# Altium schematic symbol library Driver.SchLib: 18 symbols
Pins are listed as number, name and electrical type; pins without a type are passive.

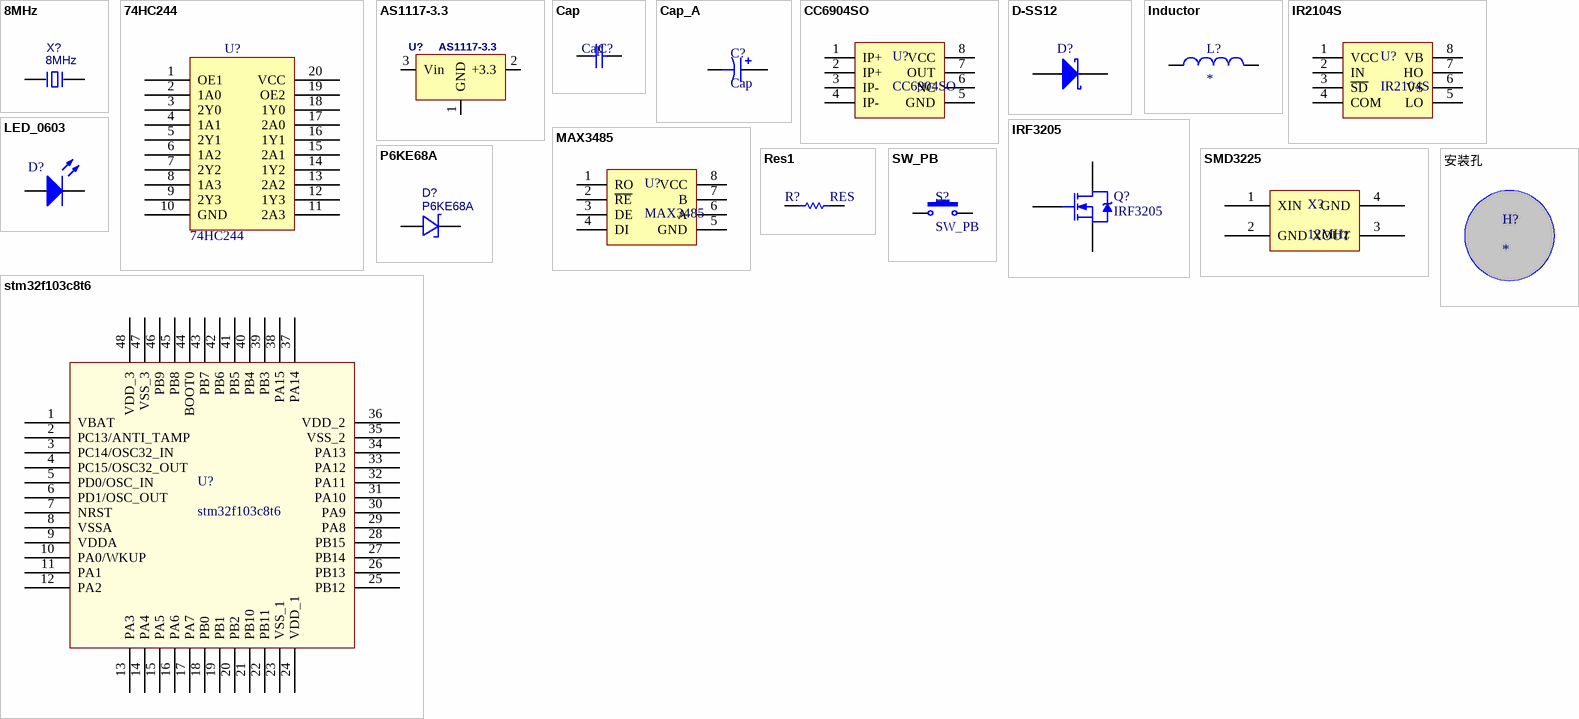
[diagram p0: symbols 8MHz to 安装孔]

## 8MHz
designator X?
Crystal; BOM_Manufacturer: ZheJiang East Crystal Elec; BOM_Manufacturer Part: B08000J065; nameAlias: Frequency; Contributor: LCSC; BOM_Supplier: LCSC; BOM_Supplier Part: C258976; spicePre: X; spiceSymbolName: B08000J065
pins: 1, 2

## 74HC244
designator U?  (value not drawn)
footprint TSSOP20
pins: 1 OE1, 2 1A0, 3 2Y0, 4 1A1, 5 2Y1, 6 1A2, 7 2Y2, 8 1A3, 9 2Y3, 10 GND, 11 2A3, 12 1Y3, 13 2A2, 14 1Y2, 15 2A1, 16 1Y1, 17 2A0, 18 1Y0, 19 OE2, 20 VCC

## AS1117-3.3
designator U?
footprint SOT223
pins: 1 GND, 2 +3.3, 3 Vin

## Cap
designator C?
Capacitor; Published: 8-Jun-2000; LatestRevisionDate: 17-Jul-2002; LatestRevisionNote: Re-released for DXP Platform.; PackageReference: RAD-0.3; Publisher: Altium Limited; PackageDescription: Radial Cap, Thru-Hole; 2 Leads; 0.3 in Pin Spacing
simulation model CAP (Capacitor)
signal-integrity model Cap
footprint LC-0603_C
pins: 1, 2

## Cap_A
designator C?, comment Cap
Capacitor
pins: 1, 2

## CC6904SO
designator U?
pins: 1 IP+, 2 IP+, 3 IP-, 4 IP-, 5 GND, 6 NC, 7 OUT, 8 VCC

## D-SS12
designator D?  (value not drawn)
footprint SMA
footprint SOD-323 (Surface mounted, 2 pin package)
pins: 1 A, 2 K

## Inductor
designator L?
Inductor
pins: 1, 2

## IR2104S
designator U?
pins: 1 VCC, 2 IN, 3 ~{SD}, 4 COM, 5 LO, 6 VS, 7 HO, 8 VB

## IRF3205
designator Q?
Note: Pin 2 is electrically connected to pin 4.; Published: 8-Jun-2000; LatestRevisionDate: 17-Jul-2002; LatestRevisionNote: Re-released for DXP Platform.; DatasheetDocument: PD-9.814; PackageReference: TO-220AB; Publisher: Altium Limited; Code_JEDEC: TO-220-AB
footprint TO-252
pins: 1 G, 2 D, 3 S

## LED_0603
designator D?  (value not drawn)
Color: *
footprint LED-0603
pins: 1 A, 2 K

## MAX3485
designator U?
pins: 1 RO, 2 ~{RE}, 3 DE, 4 DI, 5 GND, 6 A, 7 B, 8 VCC

## P6KE68A
designator D?
BOM_Manufacturer: RUILON; BOM_Supplier: LCSC; BOM_Manufacturer Part: P6KE68A; BOM_Supplier Part: C10195; spicePre: D; spiceSymbolName: P6KE68A
footprint DO-15_BD3.1-L6.7-P10.70-D0.9-FD
pins: 1 A, 2 K

## Res1
designator R?, comment RES
Resistor; Value: 10K; Published: 8-Jun-2000; LatestRevisionDate: 17-Jul-2002; LatestRevisionNote: Re-released for DXP Platform.; PackageReference: AXIAL-0.3; Publisher: Altium Limited; PackageDescription: Axial Device, Thru-Hole; 2 Leads; 0.3 in Pin Spacing
simulation model RESISTOR (Resistor)
signal-integrity model Res
footprint LC-0603_R
pins: 1, 2

## SMD3225
designator X?, comment 12MHz
Crystal
pins: 1 XIN, 2 GND, 3 XOUT, 4 GND

## stm32f103c8t6
designator U?
pins: 1 VBAT, 2 PC13/ANTI_TAMP, 3 PC14/OSC32_IN, 4 PC15/OSC32_OUT, 5 PD0/OSC_IN, 6 PD1/OSC_OUT, 7 NRST, 8 VSSA, 9 VDDA, 10 PA0/WKUP, 11 PA1, 12 PA2, 13 PA3, 14 PA4, 15 PA5, 16 PA6, 17 PA7, 18 PB0, 19 PB1, 20 PB2, 21 PB10, 22 PB11, 23 VSS_1, 24 VDD_1, 25 PB12, 26 PB13, 27 PB14, 28 PB15, 29 PA8, 30 PA9, 31 PA10, 32 PA11, 33 PA12, 34 PA13, 35 VSS_2, 36 VDD_2, 37 PA14, 38 PA15, 39 PB3, 40 PB4, 41 PB5, 42 PB6, 43 PB7, 44 BOOT0, 45 PB8, 46 PB9, 47 VSS_3, 48 VDD_3

## SW_PB
designator S?
SWITCH
pins: 1, 2

## 安装孔
designator H?
footprint 安装孔